# EAGLE library part HCF4017BE (library counters)
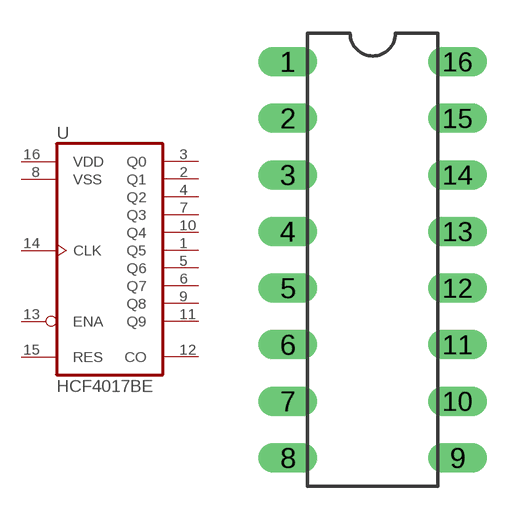
[diagram p0: symbol with the pads of DIL16; footprint DIL16]

Designator prefix U

## HCF4017BE  [DIL16]
1  Q5  out
2  Q1  out
3  Q0  out
4  Q2  out
5  Q6  out
6  Q7  out
7  Q3  out
8  VSS
9  Q8  out
10  Q4  out
11  Q9  out
12  CO  out
13  ENA  in
14  CLK  in
15  RES  in
16  VDD

## Footprint DIL16 (pad centres in mm)
drill 0.813 long: 1 -3.81,8.89; 2 -3.81,6.35; 3 -3.81,3.81; 4 -3.81,1.27; 5 -3.81,-1.27; 6 -3.81,-3.81; 7 -3.81,-6.35; 8 -3.81,-8.89; 9 3.81,-8.89; 10 3.81,-6.35; 11 3.81,-3.81; 12 3.81,-1.27; 13 3.81,1.27; 14 3.81,3.81; 15 3.81,6.35; 16 3.81,8.89